# Altium footprint library CONN_JACKAV.PcbLib: 25 footprints (part 1 of 2)
Each footprint in its own frame and in the unit in brackets; x right, y up, seen from the top. Pads: shape width x height; smd on the part's side, far side on the other; paste and mask are expansions set on the pad; w line width, h text height; cw(c..) or ccw(c..) is an arc to the next point about the centre after c.
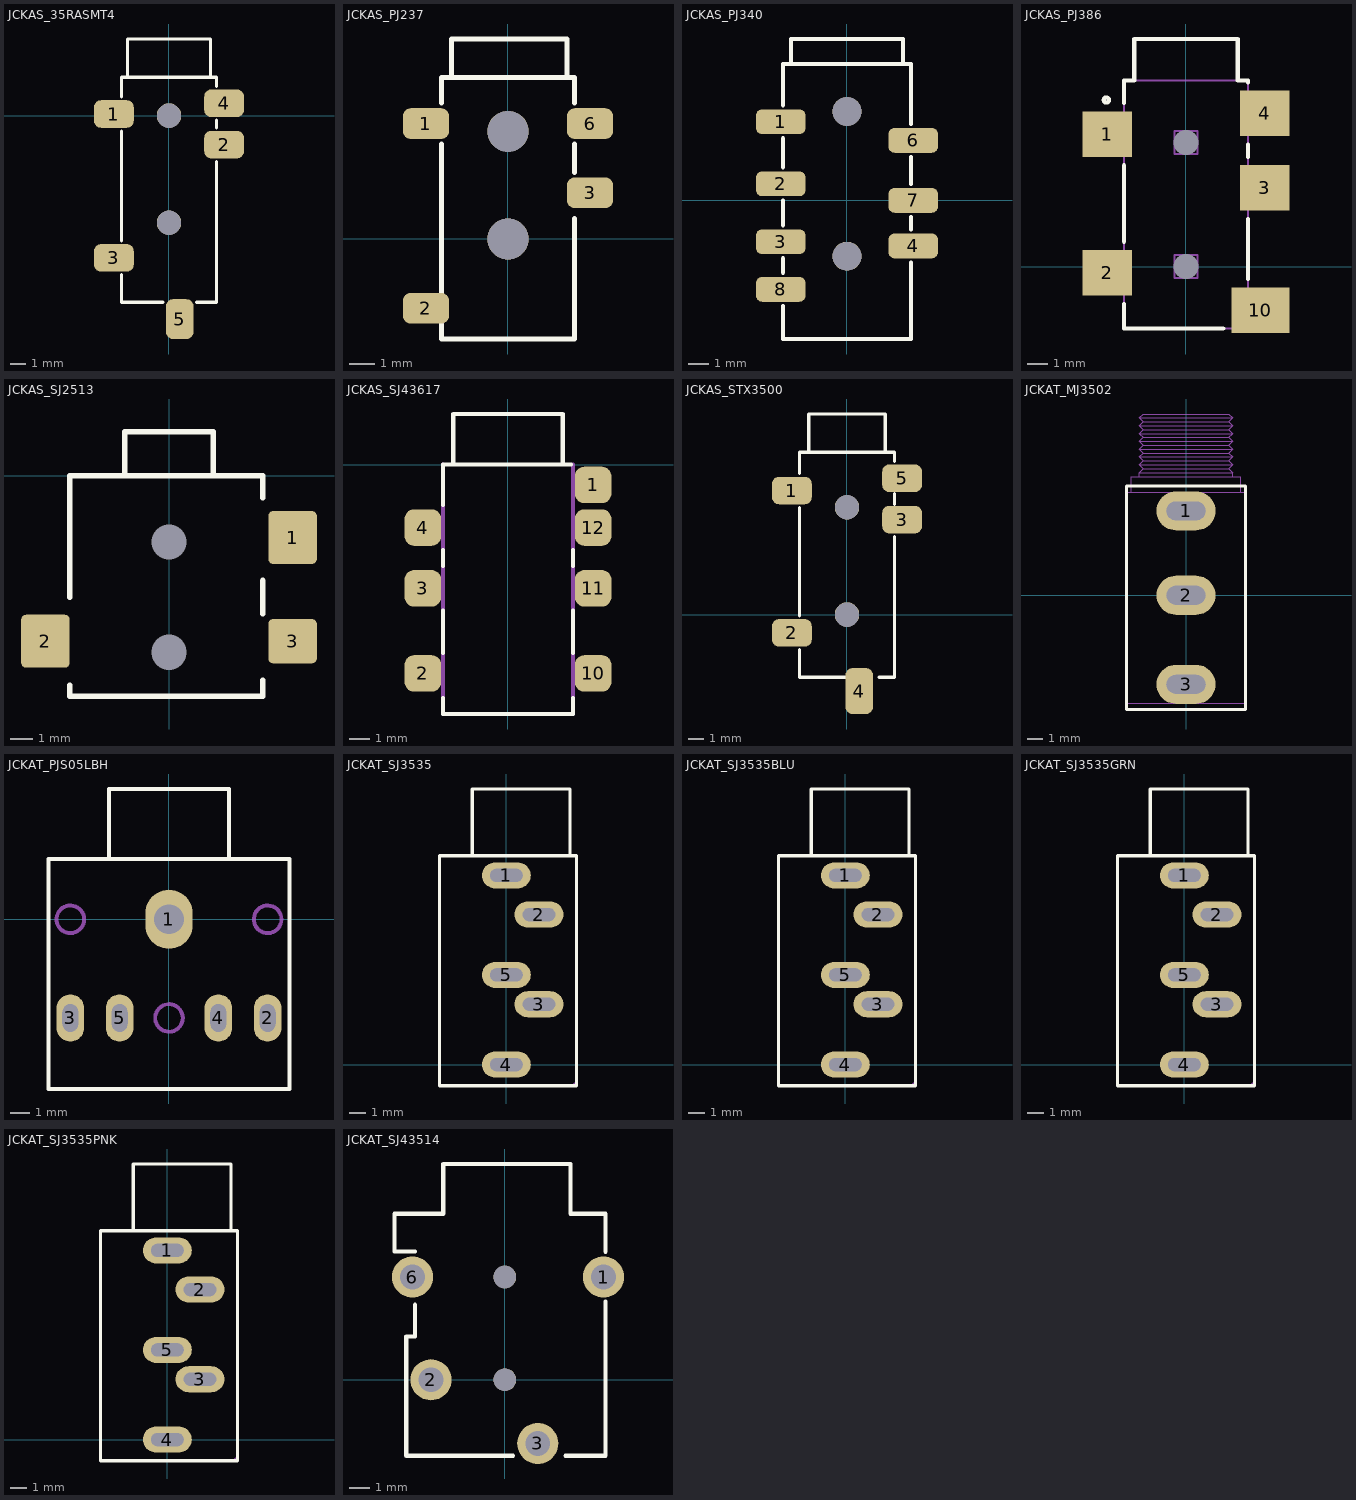
[diagram p0: the footprints below, top view; thin cyan lines are the x and y axes]

## CONNA [mm] "Conn, Audio Cable, Stereo, 3.5mm"
height 7
3D body "PCB1.step": height 7.79, standoff -3.56, extent -4.506,0 4.506,114.337

## CONNV_RCA [mm] "Cable Video Connector"
height 3
3D body "RCA plugcable.stp": height -2.91, standoff -14.11, extent -5.639,0.015 5.54,52.212

## JCKAS_35RASMT4 [mm] "Audio Jack, 35RASMT4BHNTRX"
pads (7):
  rrect50% 2.6x1.8 smd: 1(-3.6,0.1) 2(3.6,-1.9) 3(-3.6,-9.3) 4(3.6,0.8)
  rrect50% 1.8x2.6 smd: 5(0.7,-13.3)
  round 1.6 hole 1.6 unplated: ""(0,-7) ""(0,0)
Top Overlay:
  lines w0.2: -3.1,-10.4 -3.1,-12.2 -0.4,-12.2 ; -3.1,-8.2 -3.1,-1 ; -3.1,1.2 -3.1,2.5 3.1,2.5 3.1,1.9 ; -2.7,2.5 -2.7,5 2.7,5 2.7,2.5 ; 1.8,-12.2 3.1,-12.2 3.1,-3 ; 3.1,-0.8 3.1,-0.3
3D body "User Library-35RASMT4BHNTRX.step": height 5.3, standoff -0.7, extent -4.5,-14.1 4.5,4.9

## JCKAS_PJ237 [mm] "Jack, Audio, Stereo, 3.5mm, RA, SMD, PJ-237"
pads (6):
  rrect50% 1.8x1.2 smd: 1(-3.2,4.5) 2(-3.2,-2.7) 3(3.2,1.8) 6(3.2,4.5)
  round 1.6 hole 1.6 unplated: ""(0,0) ""(0,4.2)
Top Overlay:
  lines w0.2: -2.6,3.7 -2.6,-3.9 2.6,-3.9 2.6,0.8 ; -2.6,5.3 -2.6,6.3 2.6,6.3 2.6,5.3 ; -2.2,6.3 -2.2,7.8 2.3,7.8 2.3,6.3 ; 2.6,2.6 2.6,3.7
3D body "User Library-PJ-237-1.step": height 3.7, standoff -0.5, extent -3.5,-3.8 3.5,7.7

## JCKAS_PJ340 [mm] "Jack, Audio, Stereo, 3.5mm, PJ-340-SMD"
pads (9):
  rrect50% 2.4x1.2 smd: 1(-3.2,3.8) 2(-3.2,0.8) 3(-3.2,-2) 4(3.2,-2.2) 6(3.2,2.9) 7(3.2,0) 8(-3.2,-4.3)
  round 1.4 hole 1.4 unplated: ""(0,-2.7) ""(0,4.3)
Top Overlay:
  lines w0.2: -3.1,-5.1 -3.1,-6.7 3.1,-6.7 3.1,-3 ; -3.1,-3.5 -3.1,-2.8 ; -3.1,-1.2 -3.1,0 ; -3.1,1.6 -3.1,3 ; -3.1,4.6 -3.1,6.6 3.1,6.6 3.1,3.7 ; -2.7,6.6 -2.7,7.8 2.7,7.8 2.7,6.6 ; 3.1,-1.4 3.1,-0.8 ; 3.1,0.8 3.1,2.1
3D body: height 0.3, standoff 0, extent 3,2.5 4.3,3.3
3D body: height 0.3, standoff 0, extent 3,-0.4 4.3,0.4
3D body: height 0.3, standoff 0, extent 3,-2.6 4.3,-1.8
3D body: height 0.3, standoff 0, extent -4.3,-4.7 -3,-3.9
3D body: height 0.3, standoff 0, extent -4.3,-2.4 -3,-1.6
3D body: height 0.3, standoff 0, extent -4.3,0.4 -3,1.2
3D body: height 0.3, standoff 0, extent -4.3,3.4 -3,4.2
3D body: height 5.5, standoff 0, extent -2.75,6.6 2.75,7.8
3D body: height 5, standoff 0, extent -3,-6.7 3,6.6

## JCKAS_PJ386 [mm] "Jack, Audio, Stereo, 3.5mm, RA, SMD"
height 4.87
pads (7):
  rect 2.4x2.2 smd: 1(-3.8,6.4) 2(-3.8,-0.3) 3(3.8,3.8) 4(3.8,7.4)
  rect 2.8x2.2 smd: 10(3.6,-2.1)
  round 0.8 hole 1.2 unplated: ""(0,0) ""(0,6)
Top Overlay:
  circle w0.2: c-3.85,8.05 r0.125
  lines w0.2: -3,-1.8 -3,-3 1.8,-3 ; -3,1.2 -3,4.9 ; -3,7.9 -3,9 -2.5,9 -2.5,11 2.5,11 2.5,9 3,9 3,8.9 ; 3,-0.6 3,2.3 ; 3,5.3 3,5.9
Mechanical 13:
  lines w0.1: -2.5,9 -2.5,11 2.5,11 2.5,9 ; -3,-3 3,-3 3,9 -3,9 -3,-3 ; -0.55,-0.55 0.55,-0.55 0.55,0.55 -0.55,0.55 -0.55,-0.55 ; -0.55,5.45 -0.55,6.55 0.55,6.55 0.55,5.45 -0.55,5.45
3D body: height 0.1, standoff -0.4, extent -0.549,-0.55 0.549,0.549
3D body: height 0.1, standoff -0.4, extent -0.549,5.45 0.549,6.549
3D body: height 4.78, standoff -0.2, extent -2.495,8.999 2.495,10.999
3D body: height 4.87, standoff 0.1, extent -2.999,-3 2.999,8.999

## JCKAS_SJ2513 [mm] "CUI SJ1-2513-SMT 2.5mm stereo jack"
height 4
pads (5):
  rrect20% 2.2x2.4 smd: 1(5.6,-2.8) 2(-5.6,-7.5)
  rrect20% 2.2x2 smd: 3(5.6,-7.5)
  round 1.5 hole 1.6 unplated: ""(0,-8) ""(0,-3)
Top Overlay:
  lines w0.254: -4.5,-9.5 -4.5,-10 4.25,-10 4.25,-9.275 ; -4.5,-5.5 -4.5,0 4.25,0 4.25,-1 ; -2,0 -2,2 2,2 2,0 ; 4.25,-6.25 4.25,-4.75
3D body "CUI-SJ1-2513-SMT.step": height 4.12, standoff -0.43, extent -6,-10 6,2

## JCKAS_SJ43617 [mm] "Jack, Audio, Stereo, 3.5mm, SJ-43617-SMT"
pads (7):
  rrect50% 1.8x1.8 smd: 1(4.2,-1) 2(-4.2,-10.3) 3(-4.2,-6.1) 4(-4.2,-3.1) 10(4.2,-10.3) 11(4.2,-6.1) 12(4.2,-3.1)
Top Overlay:
  lines w0.2: -3.2,-11.5 -3.2,-12.3 3.2,-12.3 3.2,-11.5 ; -3.2,-9.3 -3.2,-7.2 ; -3.2,-5 -3.2,-4.2 ; -3.2,-2 -3.2,0 3.1,0 ; -2.7,0 -2.7,2.5 2.7,2.5 2.7,0 ; 3.2,-9.3 3.2,-7.2 ; 3.2,-5 3.2,-4.2
Mechanical 1:
  lines w0.2: -3.2,0 -3.2,-12.3 3.2,-12.3 3.2,0
  text "CUT KEEPOUT" at 0.3,-10.8 h0.8
3D body "SJ-43617-smt.stp": height 3.9, standoff -1.8, extent -4.3,-12.2 4.3,1.8

## JCKAS_STX3500 [mm] "Jack, Audio, Stereo, 3.5mm, RA, SMD"
pads (7):
  rrect50% 2.6x1.8 smd: 1(-3.6,8.1) 2(-3.6,-1.2) 3(3.6,6.2) 5(3.6,8.9)
  rrect50% 1.8x3 smd: 4(0.8,-5)
  round 1.6 hole 1.6 unplated: ""(0,0) ""(0,7)
Top Overlay:
  lines w0.2: -3.1,-2.3 -3.1,-4.1 -0.1,-4.1 ; -3.1,-0.1 -3.1,7 ; -3.1,9.2 -3.1,10.6 3.1,10.6 3.1,10 ; -2.5,10.6 -2.5,13.1 2.5,13.1 2.5,10.6 ; 2.1,-4.1 3.1,-4.1 3.1,5.1 ; 3.1,7.2 3.1,7.9
3D body "STX-3500-5NTR_rA2.STEP": height 5, standoff -1, extent -4.5,-6 4.5,13

## JCKAT_MJ3502 [mm] "CUI MJ-3502 3.5mm audio jack - mono"
height 11.3
pads (3):
  oval 3.8x2.5 hole 1.2 slot 2.5 at 0 deg: 1(0,5.4) 2(0,0) 3(0,-5.7)
Top Overlay:
  lines w0.2: -3.8,-7.3 -3.8,7 3.8,7 3.8,-7.3 -3.8,-7.3
Mechanical 13:
  lines w0.05: -3.5,6.6 -3.5,7.6 3.5,7.6 3.5,6.6 ; -3,7.6 -3,7.85 ; 3,7.6 3,7.85 ; -3,7.85 -2.75,8.1 ; -3,7.85 3,7.85 ; -3,8.35 -2.75,8.6 ; -3,8.35 -2.75,8.1 ; -3,8.35 3,8.35 ; -3,8.85 -2.75,9.1 ; -3,8.85 -2.75,8.6 ; -3,8.85 3,8.85 ; -3,9.35 -2.75,9.6 ; -3,9.35 -2.75,9.1 ; -3,9.35 3,9.35 ; -3,9.85 -2.75,9.6 ; -3,9.85 -2.75,10.1 ; -3,9.85 3,9.85 ; -3,10.35 -2.75,10.6 ; -3,10.35 -2.75,10.1 ; -3,10.35 3,10.35 ; -3,10.85 -2.75,10.6 ; -3,10.85 -2.75,11.1 ; -3,10.85 3,10.85 ; -3,11.35 -2.75,11.6 2.75,11.6 3,11.35 ; -3,11.35 -2.75,11.1 ; -3,11.35 3,11.35 ; -2.75,8.1 2.75,8.1 ; -2.75,8.6 2.75,8.6 ; -2.75,9.1 2.75,9.1 ; -2.75,9.6 2.75,9.6 ; -2.75,10.1 2.75,10.1 ; -2.75,10.6 2.75,10.6 ; -2.75,11.1 2.75,11.1 ; 2.75,8.1 3,7.85 ; 2.75,8.1 3,8.35 ; 2.75,8.6 3,8.35 ; 2.75,8.6 3,8.85 ; 2.75,9.1 3,8.85 ; 2.75,9.1 3,9.35 ; 2.75,9.6 3,9.85 ; 2.75,9.6 3,9.35 ; 2.75,10.1 3,10.35 ; 2.75,10.1 3,9.85 ; 2.75,10.6 3,10.35 ; 2.75,10.6 3,10.85 ; 2.75,11.1 3,11.35 ; 2.75,11.1 3,10.85 ; -3.75,-6.9 -3.75,6.6 3.75,6.6 3.75,-6.9 -3.75,-6.9
3D body "Mono Connector MJ-3502.STEP": height 11.3, standoff -4.1, extent -3.75,-6.9 3.75,11.6

## JCKAT_PJS05LBH [mm] "Jack, Audio, Stereo, 3.5mm, RA, THD, PJS-05-LB-H"
pads (5):
  oval 2.4x3 hole 1.5: 1(0,0)
  oval 1.4x2.4 hole 0.8 slot 1.4 at 90 deg: 2(5,-5) 3(-5,-5) 4(2.5,-5) 5(-2.5,-5)
Top Overlay:
  lines w0.2: -3.048,3.048 -3.048,6.604 3.048,6.604 3.048,3.048 ; -6.1,-8.6 -6.1,3.048 0,3.048 6.096,3.048 6.096,-8.6 -6.1,-8.6
Mechanical 1:
  circle w0.2: c0,-5 r0.7
  circle w0.2: c5,0 r0.7
  circle w0.2: c-5,0 r0.7
3D body "User Library-PJS_05_LB_H.step": height 10, standoff -4.13, extent -6,-8.5 6,6.5

## JCKAT_SJ3535 [mm] "Jack, Audio, Stereo, 3.5mm, RA, THD, SJ1-3535NG BLACK"
pads (5):
  oval 3x1.6 hole 0.8 slot 2 at 0 deg: 1(0,11.6) 2(2,9.2) 3(2,3.7) 4(0,0) 5(0,5.5)
Top Overlay:
  lines w0.2: -2.1,12.8 -2.1,16.9 3.9,16.9 3.9,12.8 ; -4.1,-1.3 -4.1,12.8 4.3,12.8 4.3,-1.3 -4.1,-1.3
Top Solder:
  region: 1.65,2.95 -0.65,5.25 0.35,6.25 2.65,3.95
Mechanical 1:
  lines w0.2: 4.2,-1.2 4.2,-1.2
3D body "sj1-3535ng.stp": height 12.4, standoff -3.2, extent -4,-1.2 4.2,16.85

## JCKAT_SJ3535BLU [mm] "Jack, Audio, Stereo, 3.5mm, RA, THD, SJ1-3535NG-BE"
pads (5):
  oval 3x1.6 hole 0.8 slot 2 at 0 deg: 1(0,11.6) 2(2,9.2) 3(2,3.7) 4(0,0) 5(0,5.5)
Top Overlay:
  lines w0.2: -2.1,12.8 -2.1,16.9 3.9,16.9 3.9,12.8 ; -4.1,-1.3 4.3,-1.3 4.3,12.8 -4.1,12.8 -4.1,-1.3
Top Solder:
  region: 1.65,2.95 -0.65,5.25 0.35,6.25 2.65,3.95
Mechanical 1:
  lines w0.2: 4.2,-1.2 4.2,-1.2
3D body "sj1-3535ng-be.stp": height 12.4, standoff -3.2, extent -4,-1.2 4.2,16.85

## JCKAT_SJ3535GRN [mm] "Jack, Audio, Stereo, 3.5mm, RA, THD, SJ1-3535NG-GR"
pads (5):
  oval 3x1.6 hole 0.8 slot 2 at 0 deg: 1(0,11.6) 2(2,9.2) 3(2,3.7) 4(0,0) 5(0,5.5)
Top Overlay:
  lines w0.2: -2.1,12.8 -2.1,16.9 3.9,16.9 3.9,12.8 ; -4.1,-1.3 4.3,-1.3 4.3,12.8 -4.1,12.8 -4.1,-1.3
Top Solder:
  region: 1.65,2.95 -0.65,5.25 0.35,6.25 2.65,3.95
Mechanical 1:
  lines w0.2: 4.2,-1.2 4.2,-1.2
3D body "sj1-3535ng-gr.stp": height 12.4, standoff -3.2, extent -4,-1.2 4.2,16.85

## JCKAT_SJ3535PNK [mm] "Jack, Audio, Stereo, 3.5mm, RA, THD, SJ1-3535NG-PI"
pads (5):
  oval 3x1.6 hole 0.8 slot 2 at 0 deg: 1(0,11.6) 2(2,9.2) 3(2,3.7) 4(0,0) 5(0,5.5)
Top Overlay:
  lines w0.2: -2.1,12.8 -2.1,16.9 3.9,16.9 3.9,12.8 ; -4.1,-1.3 -4.1,12.8 4.3,12.8 4.3,-1.3 -4.1,-1.3
Top Solder:
  region: 1.65,2.95 -0.65,5.25 0.35,6.25 2.65,3.95
Mechanical 1:
  lines w0.2: 4.2,-1.2 4.2,-1.2
3D body "sj1-3535ng-pi.stp": height 12.4, standoff -3.2, extent -4,-1.2 4.2,16.85

## JCKAT_SJ43514 [mm] "Audio_JACK_RA_TH_SJ-43514"
height 1.2
pads (6):
  round 2 hole 1.2: 1(4.8,5) 2(-3.6,0) 3(1.6,-3.1) 6(-4.5,5)
  round 1.1 hole 1.1 unplated: " "(0,0) " "(0,5)
Top Overlay:
  lines w0.2: -4.38,3.65 -4.38,2.1 -4.8,2.1 -4.8,-3.7 0.4,-3.7 ; -4.37,6.25 -5.37,6.25 -5.37,8.08 -3,8.08 -3,10.5 3.2,10.5 3.2,8.08 4.9,8.08 4.9,6.23 ; 2.95,-3.7 4.9,-3.7 4.9,3.8
3D body "sj-43514.stp": height 5.2, standoff -2.05, extent -5.3,-3.6 4.9,10.4